# Altium schematic symbol library G3MB-202P.SchLib: 1 symbol
Pins are listed as number, name and electrical type; pins without a type are passive.

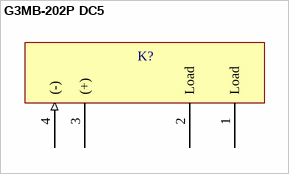
[diagram p0: symbol G3MB-202P DC5]

## G3MB-202P DC5
designator K?  (value not drawn)
RELAY MINI SSR 240VAC@2A ZERO; Mfr: Omron; Mfr PN: G3MB-202P DC5
footprint G3MB-202P DC5 (RELAY MINI SSR 240VAC@2A ZERO)
pins: 1 Load, 2 Load, 3 (+) (power), 4 (-) (in)